# Altium footprint library Test.PcbLib: 2 footprints
Each footprint in its own frame and in the unit in brackets; x right, y up, seen from the top. Pads: shape width x height; smd on the part's side, far side on the other; paste and mask are expansions set on the pad; w line width, h text height; cw(c..) or ccw(c..) is an arc to the next point about the centre after c.
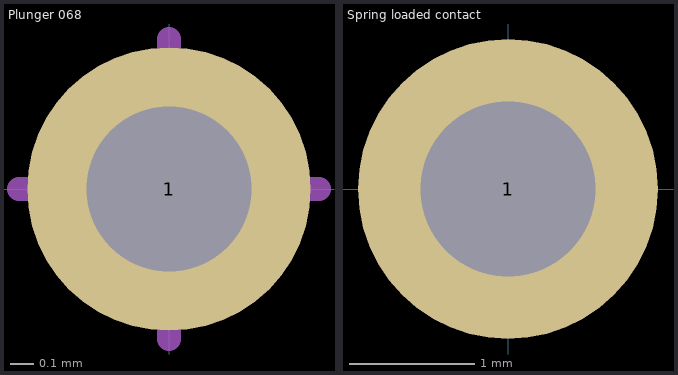
[diagram p0: the footprints below, top view; thin cyan lines are the x and y axes]

## Plunger 068 [mm] "Generic spring loaded contact"
pads (1):
  round 1.2 hole 0.7: 1(0,0)
Mechanical 11:
  lines w0.1: -0.635,0 0.635,0 ; 0,-0.635 0,0.635
3D body: height 6.55, standoff -10, extent -0.337,-0.339 0.34,0.34

## Spring loaded contact [mm] "Generic spring loaded contact"
pads (1):
  round 2.4 hole 1.4: 1(0,0)
3D body "p25-0822.stp": height 19.7, standoff -5, extent -0.9,-0.9 0.9,0.9